# Altium schematic symbol library SCH Library v1.SchLib: 3 symbols
Pins are listed as number, name and electrical type; pins without a type are passive.

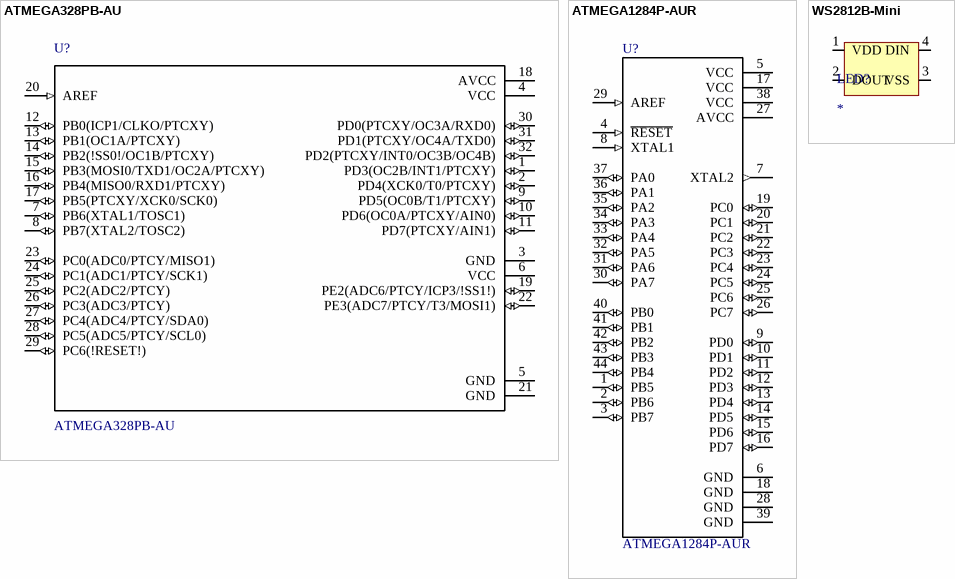
[diagram p0: symbols ATMEGA328PB-AU to WS2812B-Mini]

## ATMEGA328PB-AU
designator U?
/ AVR AVRÂ® ATmega Microcontroller IC 8-Bit 20MHz 32KB _16K x 16_ FLASH 32-TQFP _7x7_ /; MF: Microchip Technology; Package: TQFP-32 Microchip Technology; MP: ATMEGA328PB-AU; Digi-Key_Purchase_URL: https://www.digikey.com/product-detail/en/microchip-technology/ATMEGA328PB-AU/ATMEGA328PB-AU-ND/5638812?utm_source=snapeda&utm_medium=aggregator&utm_campaign=symbol; Digi-Key_Part_Number: ATMEGA328PB-AU-ND; SnapEDA_Link: https://www.snapeda.com/parts/ATMEGA328PB-AU/Microchip/view-part/4478285/?ref=snap; Value: *
footprint *QFP80P900X900X120-32N
pins: 1 PD3(OC2B/INT1/PTCXY) (io), 2 PD4(XCK0/T0/PTCXY) (io), 3 GND, 4 VCC (power), 5 GND (power), 6 VCC, 7 PB6(XTAL1/TOSC1) (io), 8 PB7(XTAL2/TOSC2) (io), 9 PD5(OC0B/T1/PTCXY) (io), 10 PD6(OC0A/PTCXY/AIN0) (io), 11 PD7(PTCXY/AIN1) (io), 12 PB0(ICP1/CLKO/PTCXY) (io), 13 PB1(OC1A/PTCXY) (io), 14 PB2(!SS0!/OC1B/PTCXY) (io), 15 PB3(MOSI0/TXD1/OC2A/PTCXY) (io), 16 PB4(MISO0/RXD1/PTCXY) (io), 17 PB5(PTCXY/XCK0/SCK0) (io), 18 AVCC (power), 19 PE2(ADC6/PTCY/ICP3/!SS1!) (io), 20 AREF (in), 21 GND (power), 22 PE3(ADC7/PTCY/T3/MOSI1) (io), 23 PC0(ADC0/PTCY/MISO1) (io), 24 PC1(ADC1/PTCY/SCK1) (io), 25 PC2(ADC2/PTCY) (io), 26 PC3(ADC3/PTCY) (io), 27 PC4(ADC4/PTCY/SDA0) (io), 28 PC5(ADC5/PTCY/SCL0) (io), 29 PC6(!RESET!) (io), 30 PD0(PTCXY/OC3A/RXD0) (io), 31 PD1(PTCXY/OC4A/TXD0) (io), 32 PD2(PTCXY/INT0/OC3B/OC4B) (io)

## ATMEGA1284P-AUR
designator U?
/ AVR AVRÂ® ATmega Microcontroller IC 8-Bit 20MHz 128KB _64K x 16_ FLASH 44-TQFP _10x10_ /; MF: Microchip; Digi-Key_Purchase_URL: https://www.digikey.com/product-detail/en/microchip-technology/ATMEGA1284P-AUR/ATMEGA1284P-AURCT-ND/3440906?utm_source=snapeda&utm_medium=aggregator&utm_campaign=symbol; Package: TQFP-44 Microchip; MP: ATMEGA1284P-AUR; SnapEDA_Link: https://www.snapeda.com/parts/ATMEGA1284P-AUR/Microchip/view-part/1775205/?ref=snap; Digi-Key_Part_Number: ATMEGA1284P-AURCT-ND; Value: *
footprint *QFP80P1200X1200X120-44N
pins: 1 PB5 (io), 2 PB6 (io), 3 PB7 (io), 4 ~{RESET} (in), 5 VCC (power), 6 GND (power), 7 XTAL2 (out), 8 XTAL1 (in), 9 PD0 (io), 10 PD1 (io), 11 PD2 (io), 12 PD3 (io), 13 PD4 (io), 14 PD5 (io), 15 PD6 (io), 16 PD7 (io), 17 VCC (power), 18 GND (power), 19 PC0 (io), 20 PC1 (io), 21 PC2 (io), 22 PC3 (io), 23 PC4 (io), 24 PC5 (io), 25 PC6 (io), 26 PC7 (io), 27 AVCC (power), 28 GND (power), 29 AREF (in), 30 PA7 (io), 31 PA6 (io), 32 PA5 (io), 33 PA4 (io), 34 PA3 (io), 35 PA2 (io), 36 PA1 (io), 37 PA0 (io), 38 VCC (power), 39 GND (power), 40 PB0 (io), 41 PB1 (io), 42 PB2 (io), 43 PB3 (io), 44 PB4 (io)

## WS2812B-Mini
designator LED?
footprint WS2812B-Mini (RGB LED)
pins: 1 VDD, 2 DOUT, 3 VSS, 4 DIN